# EAGLE library part 1X7-BIG (library ComputeCalculator)
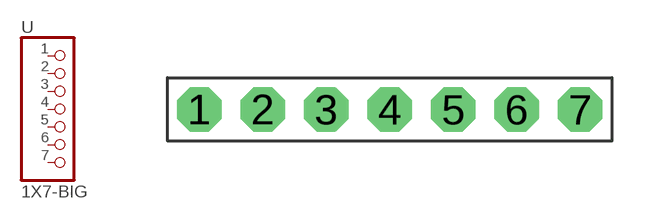
[diagram p2: symbol with the pads of 1X7-BIG; footprint 1X7-BIG]

Designator prefix -

## 1X7-BIG  [1X7-BIG]
1  1  pas
2  2  pas
3  3  pas
4  4  pas
5  5  pas
6  6  pas
7  7  pas

## Footprint 1X7-BIG (pad centres in mm)
drill 1.016 pad 1.778 octagon: 1 -7.62,0; 2 -5.08,0; 3 -2.54,0; 4 0,0; 5 2.54,0; 6 5.08,0; 7 7.62,0